# Altium footprint library CSD17575Q3T.PcbLib: 1 footprints
Each footprint in its own frame and in the unit in brackets; x right, y up, seen from the top. Pads: shape width x height; smd on the part's side, far side on the other; paste and mask are expansions set on the pad; w line width, h text height; cw(c..) or ccw(c..) is an arc to the next point about the centre after c.
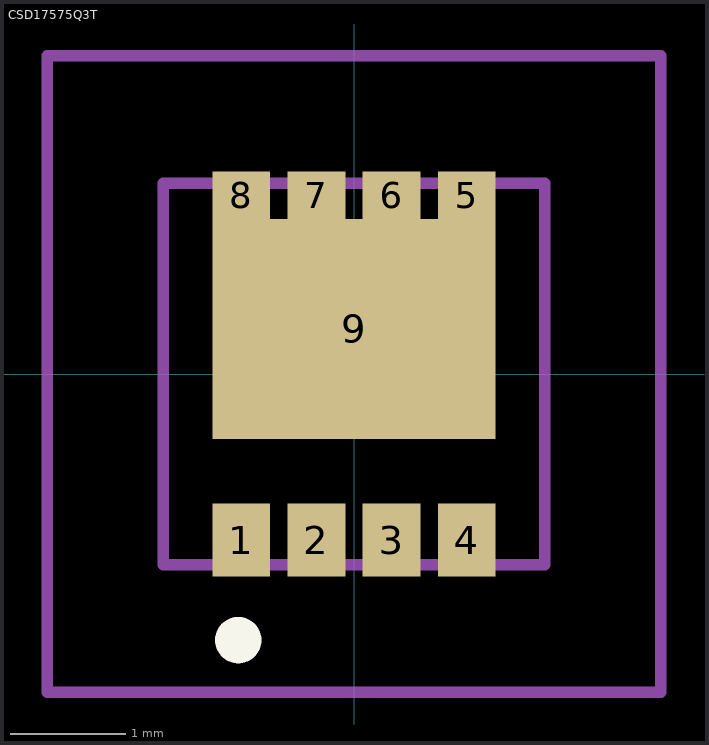
[diagram p0: the footprint, top view; thin cyan lines are the x and y axes]

## CSD17575Q3T [mm]
pads (9):
  rect 0.5x0.63 smd: 1(-0.975,-1.435) 2(-0.325,-1.435) 3(0.325,-1.435) 4(0.975,-1.435)
  rect 0.5x0.41 smd: 5(0.975,1.545) 6(0.325,1.545) 7(-0.325,1.545) 8(-0.975,1.545)
  rect 2.45x1.9 smd: 9(0,0.39)
Top Overlay:
  lines w0.2: -1,-2.4 cw(c-1,-2.3) -1,-2.2 ; -1,-2.4 -1,-2.4 ; -1,-2.4 ccw(c-1,-2.3) -1,-2.2 ; -1,-2.4 cw(c-1,-2.3) -1,-2.2 ; -1,-2.2 -1,-2.2 ; -1,-2.2 -1,-2.2
Mechanical 15:
  lines w0.1: -1.65,-1.65 1.65,-1.65 1.65,1.65 -1.65,1.65 -1.65,-1.65
Mechanical 20:
  lines w0.1: -2.65,-2.75 2.65,-2.75 2.65,2.75 -2.65,2.75 -2.65,-2.75